# Altium footprint library ALTAIR_PD_NoLeads-FlatPackage.PcbLib: 9 footprints
Each footprint in its own frame and in the unit in brackets; x right, y up, seen from the top. Pads: shape width x height; smd on the part's side, far side on the other; paste and mask are expansions set on the pad; w line width, h text height; cw(c..) or ccw(c..) is an arc to the next point about the centre after c.
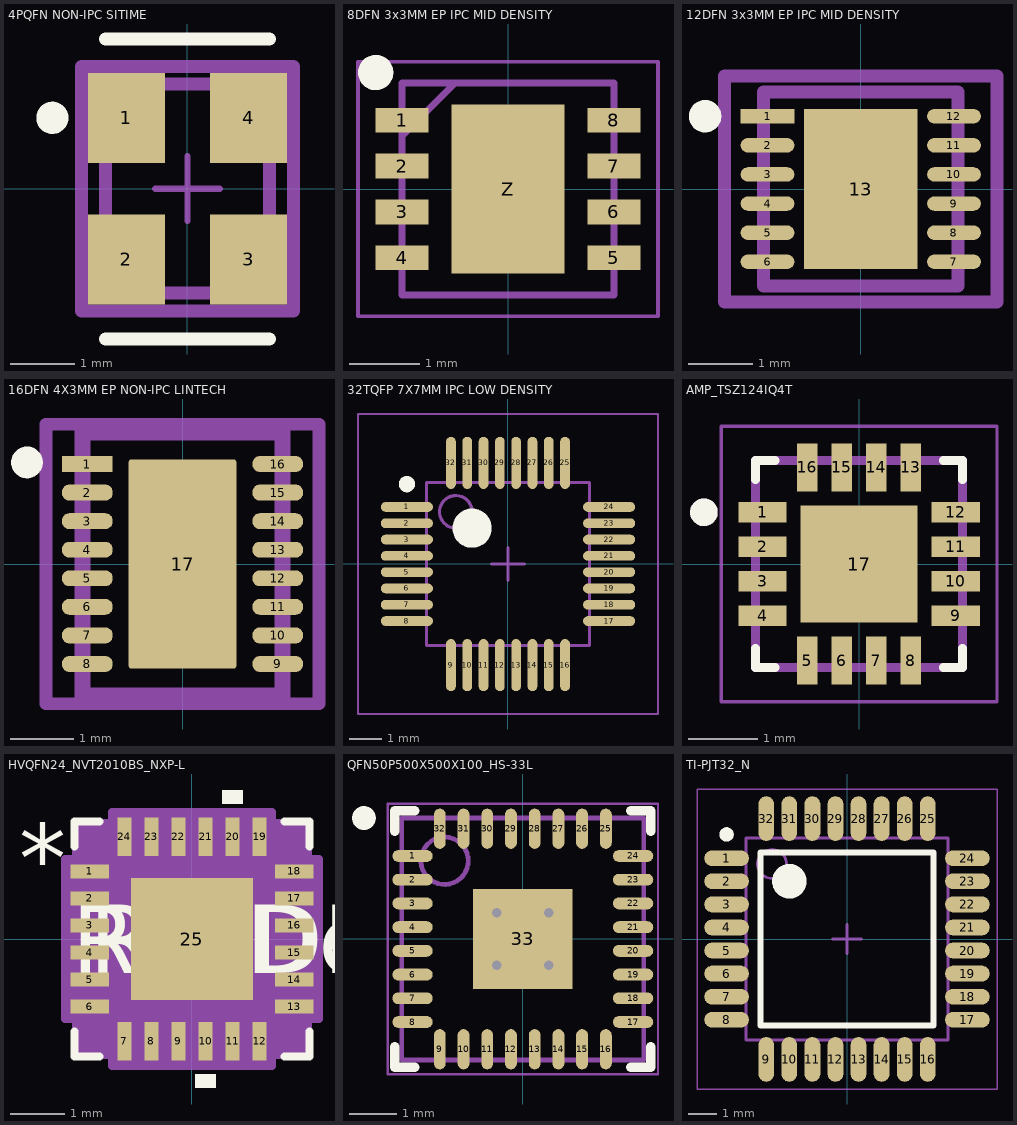
[diagram p0: the footprints below, top view; thin cyan lines are the x and y axes]

## 4PQFN NON-IPC SITIME [mm] "FP-SiT1602-2-MFG"
pads (4):
  rect 1.2x1.4 smd paste+0 mask+0: 1(-0.95,1.1) 2(-0.95,-1.1) 3(0.95,-1.1) 4(0.95,1.1)
Top Overlay:
  circle w0.25: c-2.1,1.1 r0.125
  lines w0.2: -1.275,-2.338 1.275,-2.338 ; -1.275,2.325 1.275,2.325
Top Assembly:
  lines w0.2: -1.65,-1.9 1.65,-1.9 1.65,1.9 -1.65,1.9 -1.65,-1.9
  text ".Designator" at 0,0.188 h1
Top Courtyard:
  lines w0.2: -1.65,-1.9 1.65,-1.9 1.65,1.9 -1.65,1.9 -1.65,-1.9
Top 3D Body:
  lines w0.2: -1.275,-1.625 1.275,-1.625 1.275,1.625 -1.275,1.625 -1.275,-1.625
Top Component Center:
  lines w0.1: -0.5,0 0.5,0 ; 0,-0.5 0,0.5
3D body "Crys_SiTime_SIT1602BI-22-18E-25_000000E_eec.STEP": height 0.25, standoff 0, extent -1.65,-1.9 1.65,1.9

## 8DFN 3x3MM EP IPC MID DENSITY [mm] "SON65P300X300X80-9N"
pads (9):
  rect 0.75x0.35 smd: 1(-1.5,0.975) 2(-1.5,0.325) 3(-1.5,-0.325) 4(-1.5,-0.975) 5(1.5,-0.975) 6(1.5,-0.325) 7(1.5,0.325) 8(1.5,0.975)
  rect 1.6x2.4 smd: Z(0,0)
Top Overlay:
  circle w0.25: c-1.875,1.65 r0.125
Mechanical 13:
  lines w0.1: -1.5,0.75 -0.75,1.5 ; -1.5,-1.5 1.5,-1.5 1.5,1.5 -1.5,1.5 -1.5,-1.5
Mechanical 15:
  lines w0.05: -2.125,-1.8 2.125,-1.8 2.125,1.8 -2.125,1.8 -2.125,-1.8
3D body "MAX5422ETA+T.stp": height 0.8, standoff 0, extent -1.55,-1.5 1.55,1.5

## 12DFN 3x3MM EP IPC MID DENSITY [mm] "Exposed pad, Analog Devices logo"
pads (13):
  rect 0.831x0.222 smd paste+0 mask+0: 1(-1.441,1.125)
  rrect100% 0.831x0.222 smd paste+0 mask+0: 2(-1.441,0.675) 3(-1.441,0.225) 4(-1.441,-0.225) 5(-1.441,-0.675) 6(-1.441,-1.125) 7(1.441,-1.125) 8(1.441,-0.675) 9(1.441,-0.225) 10(1.441,0.225) 11(1.441,0.675) 12(1.441,1.125)
  rect 1.75x2.48 smd paste-1000 mask-0.05: 13(0,0)
Top Overlay:
  circle w0.25: c-2.406,1.125 r0.125
Top Paste:
  rectangle: -0.501,-0.866 0.501,0.866
Top Assembly:
  lines w0.2: -2.106,-1.75 -2.106,1.75 2.106,1.75 2.106,-1.75 -2.106,-1.75
  text ".Designator" at 0,0 h1
Top Courtyard:
  lines w0.2: -2.106,-1.75 -2.106,1.75 2.106,1.75 2.106,-1.75 -2.106,-1.75
Top 3D Body:
  lines w0.2: -1.5,-1.5 -1.5,1.5 1.5,1.5 1.5,-1.5 -1.5,-1.5
Top Component Center:
  lines w0.1: -0.5,0 0.5,0 ; 0,-0.5 0,0.5
3D body "IC_Analog_Devices_LTC3600EDD#PBF_eec.STEP": height 0.8, standoff 0, extent -1.5,-1.5 1.5,1.5

## 16DFN 4X3MM EP NON-IPC LINTECH [mm]
pads (17):
  rect 0.8x0.25 smd mask+0: 1(-1.5,1.575)
  rrect91% 0.8x0.25 smd mask+0: 2(-1.5,1.125) 3(-1.5,0.675) 4(-1.5,0.225) 5(-1.5,-0.225) 6(-1.5,-0.675) 7(-1.5,-1.125) 8(-1.5,-1.575) 9(1.5,-1.575) 10(1.5,-1.125) 11(1.5,-0.675) 12(1.5,-0.225) 13(1.5,0.225) 14(1.5,0.675) 15(1.5,1.125) 16(1.5,1.575)
  rrect6% 1.7x3.3 smd mask+0: 17(0,0)
Top Overlay:
  circle w0.25: c-2.451,1.6 r0.125
Top Assembly:
  lines w0.2: -2.15,-2.2 -2.15,2.2 2.15,2.2 2.15,-2.2 -2.15,-2.2
Top Courtyard:
  lines w0.2: -2.15,-2.2 -2.15,2.2 2.15,2.2 2.15,-2.2 -2.15,-2.2
Top 3D Body:
  lines w0.254: -1.575,-2.075 1.575,-2.075 1.575,2.075 -1.575,2.075 -1.575,-2.075
Top Component Center:
  lines w0.1: -0.5,0 0.5,0 ; 0,-0.5 0,0.5
3D body "05-08-1732_ADI.step": height 0.81, standoff 0, extent -1.552,-2.045 1.546,2.045

## 32TQFP 7X7MM IPC LOW DENSITY [mm] "TSQFP50P700X700X120-32M"
pads (32):
  oval 1.6x0.3 smd mask-0.035: 1(-3.1,1.75) 2(-3.1,1.25) 3(-3.1,0.75) 4(-3.1,0.25) 5(-3.1,-0.25) 6(-3.1,-0.75) 7(-3.1,-1.25) 8(-3.1,-1.75) 17(3.1,-1.75) 18(3.1,-1.25) 19(3.1,-0.75) 20(3.1,-0.25) 21(3.1,0.25) 22(3.1,0.75) 23(3.1,1.25) 24(3.1,1.75)
  oval 0.3x1.6 smd mask-0.035: 9(-1.75,-3.1) 10(-1.25,-3.1) 11(-0.75,-3.1) 12(-0.25,-3.1) 13(0.25,-3.1) 14(0.75,-3.1) 15(1.25,-3.1) 16(1.75,-3.1) 25(1.75,3.1) 26(1.25,3.1) 27(0.75,3.1) 28(0.25,3.1) 29(-0.25,3.1) 30(-0.75,3.1) 31(-1.25,3.1) 32(-1.75,3.1)
Top Overlay:
  circle w0.6: c-1.1,1.1 r0.3
  circle w0.25: c-3.1,2.45 r0.125
Top Assembly:
  circle w0.1: c-1.6,1.6 r0.5
  lines w0.1: -2.5,-2.5 2.5,-2.5 2.5,2.5 -2.5,2.5 -2.5,-2.5
Top Courtyard:
  lines w0.05: -4.6,-4.6 4.6,-4.6 4.6,4.6 -4.6,4.6 -4.6,-4.6
  lines w0.1: -0.5,0 0.5,0 ; 0,-0.5 0,0.5
3D body "TSQFP50P700X700X120-32M.step": height 1.2, standoff 0, extent -3.5,-3.5 3.5,3.5

## AMP_TSZ124IQ4T [mm]
height 1
pads (17):
  rect 0.7x0.3 smd mask+0.05: 1(-1.4,0.75) 2(-1.4,0.25) 3(-1.4,-0.25) 4(-1.4,-0.75) 9(1.4,-0.75) 10(1.4,-0.25) 11(1.4,0.25) 12(1.4,0.75)
  rect 0.3x0.7 smd mask+0.05: 5(-0.75,-1.4) 6(-0.25,-1.4) 7(0.25,-1.4) 8(0.75,-1.4) 13(0.75,1.4) 14(0.25,1.4) 15(-0.25,1.4) 16(-0.75,1.4)
  rect 1.7x1.7 smd paste-0.312 mask+0.05: 17(0,0)
Top Overlay:
  circle w0.2: c-2.25,0.75 r0.1
  lines w0.127: -1.5,-1.22 -1.5,-1.5 -1.22,-1.5 ; -1.5,1.22 -1.5,1.5 -1.22,1.5 ; 1.22,-1.5 1.5,-1.5 1.5,-1.22 ; 1.22,1.5 1.5,1.5 1.5,1.22
Mechanical 13:
  circle w0.2: c-2.25,0.75 r0.1
  lines w0.127: -1.5,-1.5 -1.5,1.5 1.5,1.5 1.5,-1.5 -1.5,-1.5
Mechanical 15:
  lines w0.05: -2,-2 -2,2 2,2 2,-2 -2,-2
3D body "step_temp.STEP": height 1, standoff 0, extent -1.5,-1.5 1.5,1.5

## HVQFN24_NVT2010BS_NXP-L [mil]
pads (25):
  rect 28x10 smd paste+0 mask+0: 1(-74.5,49.23) 2(-74.5,29.54) 3(-74.5,9.85) 4(-74.5,-9.85) 5(-74.5,-29.54) 6(-74.5,-49.23) 13(74.5,-49.23) 14(74.5,-29.54) 15(74.5,-9.85) 16(74.5,9.85) 17(74.5,29.54) 18(74.5,49.23)
  rect 10x28 smd paste+0 mask+0: 7(-49.23,-74.5) 8(-29.54,-74.5) 9(-9.85,-74.5) 10(9.85,-74.5) 11(29.54,-74.5) 12(49.23,-74.5) 19(49.23,74.5) 20(29.54,74.5) 21(9.85,74.5) 22(-9.85,74.5) 23(-29.54,74.5) 24(-49.23,74.5)
  rect 89x89 smd paste+0 mask+0: 25(0,0)
Top Overlay:
  region: 37.03,98.5 22.04,98.5 22.04,108.5 37.03,108.5
  region: 17.34,-98.5 2.35,-98.5 2.35,-108.5 17.34,-108.5
  lines w6: -85.5,-67.33 -85.5,-85.5 -67.33,-85.5 ; -85.5,67.33 -85.5,85.5 -67.33,85.5 ; 67.33,-85.5 85.5,-85.5 85.5,-67.33 ; 67.33,85.5 85.5,85.5 85.5,67.33
  text "REFDES" at -87.5,-25 h50
  text "RefDes" at -75,-25 h50
  text "*" at -126,34.07 h50
Mechanical 13:
  lines w1: -80.5,30.5 -30.5,80.5 ; -80.5,-80.5 -80.5,80.5 80.5,80.5 80.5,-80.5 -80.5,-80.5 ; -80.5,-55.23 -80.5,-43.23 -80.5,-55.23 ; -80.5,-35.53 -80.5,-23.54 -80.5,-35.53 ; -80.5,-15.85 -80.5,-3.85 -80.5,-15.85 ; -80.5,3.85 -80.5,15.85 -80.5,3.85 ; -80.5,23.54 -80.5,35.53 -80.5,23.54 ; -80.5,43.23 -80.5,55.23 -80.5,43.23 ; -55.23,-80.5 -43.23,-80.5 -55.23,-80.5 ; -55.23,80.5 -43.23,80.5 -55.23,80.5 ; -35.53,-80.5 -23.54,-80.5 -35.53,-80.5 ; -35.53,80.5 -23.54,80.5 -35.53,80.5 ; -15.85,-80.5 -3.85,-80.5 -15.85,-80.5 ; -15.85,80.5 -3.85,80.5 -15.85,80.5 ; 3.85,-80.5 15.85,-80.5 3.85,-80.5 ; 3.85,80.5 15.85,80.5 3.85,80.5 ; 23.54,-80.5 35.53,-80.5 23.54,-80.5 ; 23.54,80.5 35.53,80.5 23.54,80.5 ; 43.23,-80.5 55.23,-80.5 43.23,-80.5 ; 43.23,80.5 55.23,80.5 43.23,80.5 ; 80.5,-55.23 80.5,-43.23 80.5,-55.23 ; 80.5,-35.53 80.5,-23.54 80.5,-35.53 ; 80.5,-15.85 80.5,-3.85 80.5,-15.85 ; 80.5,3.85 80.5,15.85 80.5,3.85 ; 80.5,23.54 80.5,35.53 80.5,23.54 ; 80.5,43.23 80.5,55.23 80.5,43.23
  text "RefDes2" at -87.5,-25 h50
  text "*" at -73,34.07 h50
Mechanical 15:
  region: -58.23,-84.5 -84.5,-84.5 -84.5,-58.23 -92.5,-58.23 -92.5,58.23 -84.5,58.23 -84.5,84.5 -58.23,84.5 -58.23,92.5 58.23,92.5 58.23,84.5 84.5,84.5 84.5,58.23 92.5,58.23 92.5,-58.23 84.5,-58.23 84.5,-84.5 58.23,-84.5 58.23,-92.5 -58.23,-92.5
  lines w6: -92.5,-58.23 -92.5,58.23 -84.5,58.23 -84.5,84.5 -58.23,84.5 -58.23,92.5 58.23,92.5 58.23,84.5 84.5,84.5 84.5,58.23 92.5,58.23 92.5,-58.23 84.5,-58.23 84.5,-84.5 58.23,-84.5 58.23,-92.5 -58.23,-92.5 -58.23,-84.5 -84.5,-84.5 -84.5,-58.23 -92.5,-58.23
3D body "HVQFN24_NVT2010BS_NXP.step": height 39.09, standoff 0, extent -80.51,-80.51 80.51,80.51

## QFN50P500X500X100_HS-33L [mm] "QFN, 32-Leads, Body 5.00x5.00mm, Pitch 0.50mm, Thermal Pad 2.10x2.10mm, IPC High Density"
height 1
pads (33):
  oval 0.85x0.25 smd: 1(-2.325,1.75) 2(-2.325,1.25) 3(-2.325,0.75) 4(-2.325,0.25) 5(-2.325,-0.25) 6(-2.325,-0.75) 7(-2.325,-1.25) 8(-2.325,-1.75) 17(2.325,-1.75) 18(2.325,-1.25) 19(2.325,-0.75) 20(2.325,-0.25) 21(2.325,0.25) 22(2.325,0.75) 23(2.325,1.25) 24(2.325,1.75)
  oval 0.25x0.85 smd: 9(-1.75,-2.325) 10(-1.25,-2.325) 11(-0.75,-2.325) 12(-0.25,-2.325) 13(0.25,-2.325) 14(0.75,-2.325) 15(1.25,-2.325) 16(1.75,-2.325) 25(1.75,2.325) 26(1.25,2.325) 27(0.75,2.325) 28(0.25,2.325) 29(-0.25,2.325) 30(-0.75,2.325) 31(-1.25,2.325) 32(-1.75,2.325)
  rect 2.1x2.1 smd: 33(0,0)
via 0.55,-0.55 diameter 0.5 hole 0.2
via -0.55,-0.55 diameter 0.5 hole 0.2
via 0.55,0.55 diameter 0.5 hole 0.2
via -0.55,0.55 diameter 0.5 hole 0.2
Top Overlay:
  circle w0.25: c-3.35,2.55 r0.125
  lines w0.2: -2.7,-2.275 -2.7,-2.7 -2.275,-2.7 ; -2.7,2.275 -2.7,2.7 -2.275,2.7 ; 2.275,-2.7 2.7,-2.7 2.7,-2.275 ; 2.275,2.7 2.7,2.7 2.7,2.275
Mechanical 13:
  circle w0.1: c-1.65,1.65 r0.5
  lines w0.1: -2.55,-2.55 2.55,-2.55 2.55,2.55 -2.55,2.55 -2.55,-2.55
Mechanical 15:
  lines w0.05: -2.85,-2.85 2.85,-2.85 2.85,2.85 -2.85,2.85 -2.85,-2.85
  lines w0.1: -0.5,0 0.5,0 ; 0,-0.5 0,0.5
3D body "QFN50P500X500X100_HS-33L.step": height 1, standoff 0, extent -2.63,-2.63 2.63,2.63

## TI-PJT32_N [mm] "QFP, 32-Leads, Body 7x7mm, Pitch 0.8mm, IPC Medium Density"
height 1.2
pads (32):
  oval 1.55x0.55 smd: 1(-4.175,2.8) 2(-4.175,2) 3(-4.175,1.2) 4(-4.175,0.4) 5(-4.175,-0.4) 6(-4.175,-1.2) 7(-4.175,-2) 8(-4.175,-2.8) 17(4.175,-2.8) 18(4.175,-2) 19(4.175,-1.2) 20(4.175,-0.4) 21(4.175,0.4) 22(4.175,1.2) 23(4.175,2) 24(4.175,2.8)
  oval 0.55x1.55 smd: 9(-2.8,-4.175) 10(-2,-4.175) 11(-1.2,-4.175) 12(-0.4,-4.175) 13(0.4,-4.175) 14(1.2,-4.175) 15(2,-4.175) 16(2.8,-4.175) 25(2.8,4.175) 26(2,4.175) 27(1.2,4.175) 28(0.4,4.175) 29(-0.4,4.175) 30(-1.2,4.175) 31(-2,4.175) 32(-2.8,4.175)
Top Overlay:
  circle w0.25: c-4.175,3.625 r0.125
  circle w0.6: c-2,2 r0.3
  lines w0.2: -3,-3 -3,3 3,3 3,-3 -3,-3
Mechanical 13:
  circle w0.1: c-2.6,2.6 r0.5
  lines w0.1: -3.5,-3.5 -3.5,3.5 3.5,3.5 3.5,-3.5 -3.5,-3.5
Mechanical 15:
  lines w0.05: -5.2,-5.2 -5.2,5.2 5.2,5.2 5.2,-5.2 -5.2,-5.2
  lines w0.1: -0.5,0 0.5,0 ; 0,-0.5 0,0.5
3D body: height 1.2, standoff 0.05, extent -3.5,-3.5 3.5,3.5